# EAGLE library part 87758-1016 (library miifitjr2)
10 Pin - 2mm Dual Row Single Wafer, Vertical T/H HDR Source: http://www.molex.com/pdm_docs/sd/877580616_sd.pdf
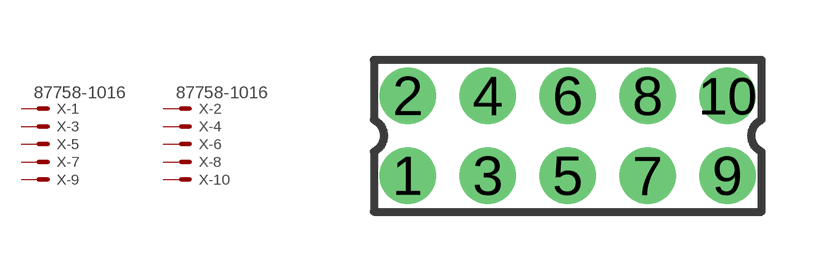
[diagram p193: symbol with the pads of 87758-1016; footprint 87758-1016]

Designator prefix X; gates -1=MV -2=MV -3=M -4=M -5=M -6=M -7=M -8=M -9=M -10=M

## 87758-1016 (MF: MOLEX; MPN: 87758-1016; OC_FARNELL: 7472340; OC_NEWARK: 59J1558)  [87758-1016]
1  -1:S  pas
2  -2:S  pas
3  -3:S  pas
4  -4:S  pas
5  -5:S  pas
6  -6:S  pas
7  -7:S  pas
8  -8:S  pas
9  -9:S  pas
10  -10:S  pas

## Footprint 87758-1016 (pad centres in mm)
2.00mm Pitch Milli-Grid™ Header, Through Hole, Vertical, 10 Circuits, 0.38µm Gold (Au) Selective Plating, Pocket Tray Packaging, Lead-Free Datasheet <http://www.molex.com/pdm_docs/sd/877581016_sd.pdf>
drill 0.9 pad 1.27: 1 -4,-1; 2 -4,1; 3 -2,-1; 4 -2,1; 5 0,-1; 6 0,1; 7 2,-1; 8 2,1; 9 4,-1; 10 4,1